# Altium integrated library Oscillators - Crystals.IntLib: 746 symbols (part 2 of 17)
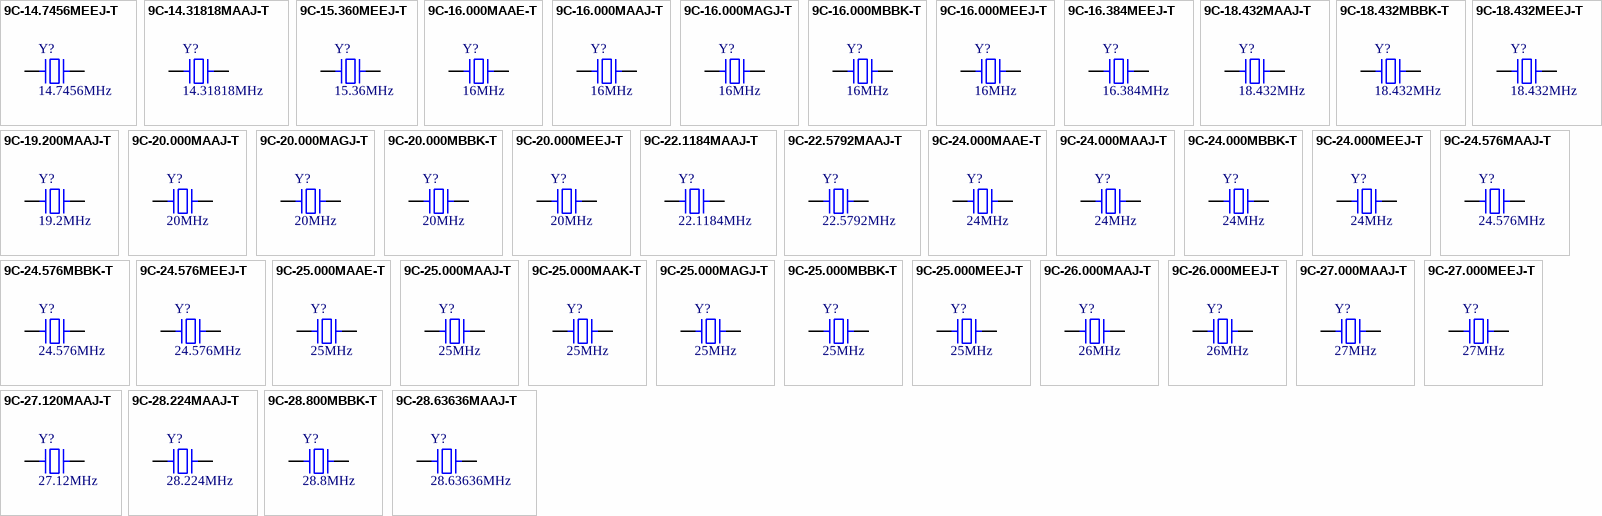
[diagram p19: symbols 9C-14.7456MEEJ-T to 9C-28.63636MAAJ-T]

## 9C-16.000MBBK-T
designator Y?, comment 16MHz
CRYSTAL 16.0000MHZ 20PF SMD; Part Number: 9C-16.000MBBK-T; Manufacturer: TXC CORPORATION; ESR (Equivalent Series Resistance): 30 Ohms; Frequency Stability: ±50ppm; Operating Mode: Fundamental; ComponentLink1Description: Datasheet; ComponentLink1URL: http://www.txccorp.com/download/products/quartz_crystals/2015TXC_9C_32.pdf; ComponentLink2Description: DigiKey Link; ComponentLink2URL: http://digikey.com/product-detail/en/txc-corporation/9C-16.000MBBK-T/887-2425-1-ND/4475430; Frequency: 16MHz; Frequency Tolerance: ±50ppm; Height - Seated (Max): 0.161" (4.10mm); LastUpdated: 9/2/2020 1:22:01 AM; Lifecycle Status: Active; Load Capacitance: 20pF; Minimum Order: 1; Mounting Type: Surface Mount; Operating Temperature: -20°C ~ 70°C; Package / Case: HC-49S; Packaging: TapeAndReel; PartId: 698; Part Status: Active; Price: 0.18; Series: 9C; Size / Dimension: 0.449" L x 0.189" W (11.40mm x 4.80mm); Supplier 1: DigiKey; Supplier Part Number 1: 887-2425-1-ND; Type: MHz Crystal; Value: 16MHz
footprint TXC 9C
pins: 1, 2

## 9C-16.000MEEJ-T
designator Y?, comment 16MHz
CRYSTAL 16.0000MHZ 18PF SMD; Part Number: 9C-16.000MEEJ-T; Manufacturer: TXC CORPORATION; ESR (Equivalent Series Resistance): 30 Ohms; Frequency Stability: ±10ppm; Operating Mode: Fundamental; ComponentLink1Description: Datasheet; ComponentLink1URL: http://www.txccrystal.com/images/pdf/9c-accuracy.pdf; ComponentLink2Description: DigiKey Link; ComponentLink2URL: http://digikey.com/product-detail/en/txc-corporation/9C-16.000MEEJ-T/887-1274-1-ND/2207856; Frequency: 16MHz; Frequency Tolerance: ±10ppm; Height - Seated (Max): 0.161" (4.10mm); LastUpdated: 9/2/2020 1:22:02 AM; Lifecycle Status: Active; Load Capacitance: 18pF; Minimum Order: 1; Mounting Type: Surface Mount; Operating Temperature: -20°C ~ 70°C; Package / Case: HC-49/US; Packaging: TapeAndReel; PartId: 659; Part Status: Active; Price: 0.29; Series: 9C; Size / Dimension: 0.449" L x 0.189" W (11.40mm x 4.80mm); Supplier 1: DigiKey; Supplier Part Number 1: 887-1274-1-ND; Type: MHz Crystal; Value: 16MHz
footprint TXC 9C
pins: 1, 2

## 9C-16.384MEEJ-T
designator Y?, comment 16.384MHz
CRYSTAL 16.3840MHZ 18PF SMD; Part Number: 9C-16.384MEEJ-T; Manufacturer: TXC CORPORATION; ESR (Equivalent Series Resistance): 30 Ohms; Frequency Stability: ±10ppm; Operating Mode: Fundamental; ComponentLink1Description: Datasheet; ComponentLink1URL: http://www.txccrystal.com/images/pdf/9c-accuracy.pdf; ComponentLink2Description: DigiKey Link; ComponentLink2URL: http://digikey.com/product-detail/en/txc-corporation/9C-16.384MEEJ-T/887-1275-1-ND/2207857; Frequency: 16.384MHz; Frequency Tolerance: ±10ppm; Height - Seated (Max): 0.161" (4.10mm); LastUpdated: 9/2/2020 1:22:01 AM; Lifecycle Status: Active; Load Capacitance: 18pF; Minimum Order: 1; Mounting Type: Surface Mount; Operating Temperature: -20°C ~ 70°C; Package / Case: HC-49/US; Packaging: TapeAndReel; PartId: 717; Part Status: Active; Price: 0.29; Series: 9C; Size / Dimension: 0.449" L x 0.189" W (11.40mm x 4.80mm); Supplier 1: DigiKey; Supplier Part Number 1: 887-1275-1-ND; Type: MHz Crystal; Value: 16.384MHz
footprint TXC 9C
pins: 1, 2

## 9C-18.432MAAJ-T
designator Y?, comment 18.432MHz
CRYSTAL 18.4320MHZ 18PF SMD; Part Number: 9C-18.432MAAJ-T; Manufacturer: TXC CORPORATION; ESR (Equivalent Series Resistance): 30 Ohms; Frequency Stability: ±30ppm; Operating Mode: Fundamental; ComponentLink1Description: Datasheet; ComponentLink1URL: http://www.txccorp.com/download/products/quartz_crystals/2015TXC_9C_32.pdf; ComponentLink2Description: DigiKey Link; ComponentLink2URL: http://digikey.com/product-detail/en/txc-corporation/9C-18.432MAAJ-T/887-1061-1-ND/2118938; Frequency: 18.432MHz; Frequency Tolerance: ±30ppm; Height - Seated (Max): 0.161" (4.10mm); LastUpdated: 9/2/2020 1:22:01 AM; Lifecycle Status: Active; Load Capacitance: 18pF; Minimum Order: 1; Mounting Type: Surface Mount; Operating Temperature: -20°C ~ 70°C; Package / Case: HC-49/US; Packaging: TapeAndReel; PartId: 727; Part Status: Active; Price: 0.22; Series: 9C; Size / Dimension: 0.449" L x 0.189" W (11.40mm x 4.80mm); Supplier 1: DigiKey; Supplier Part Number 1: 887-1061-1-ND; Type: MHz Crystal; Value: 18.432MHz
footprint TXC 9C
pins: 1, 2

## 9C-18.432MBBK-T
designator Y?, comment 18.432MHz
CRYSTAL 18.4320MHZ 20PF SMD; Part Number: 9C-18.432MBBK-T; Manufacturer: TXC CORPORATION; ESR (Equivalent Series Resistance): 30 Ohms; Frequency Stability: ±50ppm; Operating Mode: Fundamental; ComponentLink1Description: Datasheet; ComponentLink1URL: http://www.txccorp.com/download/products/quartz_crystals/2015TXC_9C_32.pdf; ComponentLink2Description: DigiKey Link; ComponentLink2URL: http://digikey.com/product-detail/en/txc-corporation/9C-18.432MBBK-T/887-1945-1-ND/3679677; Frequency: 18.432MHz; Frequency Tolerance: ±50ppm; Height - Seated (Max): 0.161" (4.10mm); LastUpdated: 9/2/2020 1:22:02 AM; Lifecycle Status: Active; Load Capacitance: 20pF; Minimum Order: 1; Mounting Type: Surface Mount; Operating Temperature: -20°C ~ 70°C; Package / Case: HC-49S; Packaging: TapeAndReel; PartId: 662; Part Status: Active; Price: 0.18; Series: 9C; Size / Dimension: 0.449" L x 0.189" W (11.40mm x 4.80mm); Supplier 1: DigiKey; Supplier Part Number 1: 887-1945-1-ND; Type: MHz Crystal; Value: 18.432MHz
footprint TXC 9C
pins: 1, 2

## 9C-18.432MEEJ-T
designator Y?, comment 18.432MHz
CRYSTAL 18.4320MHZ 18PF SMD; Part Number: 9C-18.432MEEJ-T; Manufacturer: TXC CORPORATION; ESR (Equivalent Series Resistance): 30 Ohms; Frequency Stability: ±10ppm; Operating Mode: Fundamental; ComponentLink1Description: Datasheet; ComponentLink1URL: http://www.txccrystal.com/images/pdf/9c-accuracy.pdf; ComponentLink2Description: DigiKey Link; ComponentLink2URL: http://digikey.com/product-detail/en/txc-corporation/9C-18.432MEEJ-T/887-1276-1-ND/2207858; Frequency: 18.432MHz; Frequency Tolerance: ±10ppm; Height - Seated (Max): 0.161" (4.10mm); LastUpdated: 9/2/2020 1:22:01 AM; Lifecycle Status: Active; Load Capacitance: 18pF; Minimum Order: 1; Mounting Type: Surface Mount; Operating Temperature: -20°C ~ 70°C; Package / Case: HC-49/US; Packaging: TapeAndReel; PartId: 738; Part Status: Active; Price: 0.29; Series: 9C; Size / Dimension: 0.449" L x 0.189" W (11.40mm x 4.80mm); Supplier 1: DigiKey; Supplier Part Number 1: 887-1276-1-ND; Type: MHz Crystal; Value: 18.432MHz
footprint TXC 9C
pins: 1, 2

## 9C-19.200MAAJ-T
designator Y?, comment 19.2MHz
CRYSTAL 19.2000MHZ 18PF SMD; Part Number: 9C-19.200MAAJ-T; Manufacturer: TXC CORPORATION; ESR (Equivalent Series Resistance): 30 Ohms; Frequency Stability: ±30ppm; Operating Mode: Fundamental; ComponentLink1Description: Datasheet; ComponentLink1URL: http://www.txccorp.com/download/products/quartz_crystals/2015TXC_9C_32.pdf; ComponentLink2Description: DigiKey Link; ComponentLink2URL: http://digikey.com/product-detail/en/txc-corporation/9C-19.200MAAJ-T/887-1062-1-ND/2118939; Frequency: 19.2MHz; Frequency Tolerance: ±30ppm; Height - Seated (Max): 0.161" (4.10mm); LastUpdated: 9/2/2020 1:22:01 AM; Lifecycle Status: Active; Load Capacitance: 18pF; Minimum Order: 1; Mounting Type: Surface Mount; Operating Temperature: -20°C ~ 70°C; Package / Case: HC-49/US; Packaging: TapeAndReel; PartId: 724; Part Status: Active; Price: 0.22; Series: 9C; Size / Dimension: 0.449" L x 0.189" W (11.40mm x 4.80mm); Supplier 1: DigiKey; Supplier Part Number 1: 887-1062-1-ND; Type: MHz Crystal; Value: 19.2MHz
footprint TXC 9C
pins: 1, 2

## 9C-20.000MAAJ-T
designator Y?, comment 20MHz
CRYSTAL 20.0000MHZ 18PF SMD; Part Number: 9C-20.000MAAJ-T; Manufacturer: TXC CORPORATION; ESR (Equivalent Series Resistance): 30 Ohms; Frequency Stability: ±30ppm; Operating Mode: Fundamental; ComponentLink1Description: Datasheet; ComponentLink1URL: http://www.txccorp.com/download/products/quartz_crystals/2015TXC_9C_32.pdf; ComponentLink2Description: DigiKey Link; ComponentLink2URL: http://digikey.com/product-detail/en/txc-corporation/9C-20.000MAAJ-T/887-1063-1-ND/2118940; Frequency: 20MHz; Frequency Tolerance: ±30ppm; Height - Seated (Max): 0.161" (4.10mm); LastUpdated: 9/2/2020 1:22:01 AM; Lifecycle Status: Active; Load Capacitance: 18pF; Minimum Order: 1; Mounting Type: Surface Mount; Operating Temperature: -20°C ~ 70°C; Package / Case: HC-49/US; Packaging: TapeAndReel; PartId: 728; Part Status: Active; Price: 0.22; Series: 9C; Size / Dimension: 0.449" L x 0.189" W (11.40mm x 4.80mm); Supplier 1: DigiKey; Supplier Part Number 1: 887-1063-1-ND; Type: MHz Crystal; Value: 20MHz
footprint TXC 9C
pins: 1, 2

## 9C-20.000MAGJ-T
designator Y?, comment 20MHz
CRYSTAL 20.0000MHZ 18PF SMD; Part Number: 9C-20.000MAGJ-T; Manufacturer: TXC CORPORATION; ESR (Equivalent Series Resistance): 30 Ohms; Frequency Stability: ±50ppm; Frequency Tolerance: ±30ppm; Operating Mode: Fundamental; ComponentLink1Description: Datasheet; ComponentLink1URL: http://www.txccorp.com/download/products/quartz_crystals/2015TXC_9C_32.pdf; ComponentLink2Description: DigiKey Link; ComponentLink2URL: http://digikey.com/product-detail/en/txc-corporation/9C-20.000MAGJ-T/887-2433-1-ND/4475489; Frequency: 20MHz; Height - Seated (Max): 0.161" (4.10mm); LastUpdated: 9/2/2020 1:22:02 AM; Lifecycle Status: Active; Load Capacitance: 18pF; Minimum Order: 1; Mounting Type: Surface Mount; Operating Temperature: -40°C ~ 85°C; Package / Case: HC-49S; Packaging: TapeAndReel; PartId: 678; Part Status: Active; Price: 0.19; Series: 9C; Size / Dimension: 0.449" L x 0.189" W (11.40mm x 4.80mm); Supplier 1: DigiKey; Supplier Part Number 1: 887-2433-1-ND; Type: MHz Crystal; Value: 20MHz
footprint TXC 9C
pins: 1, 2

## 9C-20.000MBBK-T
designator Y?, comment 20MHz
CRYSTAL 20.0000MHZ 20PF SMD; Part Number: 9C-20.000MBBK-T; Manufacturer: TXC CORPORATION; ESR (Equivalent Series Resistance): 30 Ohms; Frequency Stability: ±50ppm; Operating Mode: Fundamental; ComponentLink1Description: Datasheet; ComponentLink1URL: http://www.txccorp.com/download/products/quartz_crystals/2015TXC_9C_32.pdf; ComponentLink2Description: DigiKey Link; ComponentLink2URL: http://digikey.com/product-detail/en/txc-corporation/9C-20.000MBBK-T/887-2434-1-ND/4475433; Frequency: 20MHz; Frequency Tolerance: ±50ppm; Height - Seated (Max): 0.161" (4.10mm); LastUpdated: 9/2/2020 1:22:02 AM; Lifecycle Status: Active; Load Capacitance: 20pF; Minimum Order: 1; Mounting Type: Surface Mount; Operating Temperature: -20°C ~ 70°C; Package / Case: HC-49S; Packaging: TapeAndReel; PartId: 668; Part Status: Active; Price: 0.18; Series: 9C; Size / Dimension: 0.449" L x 0.189" W (11.40mm x 4.80mm); Supplier 1: DigiKey; Supplier Part Number 1: 887-2434-1-ND; Type: MHz Crystal; Value: 20MHz
footprint TXC 9C
pins: 1, 2

## 9C-20.000MEEJ-T
designator Y?, comment 20MHz
CRYSTAL 20.0000MHZ 18PF SMD; Part Number: 9C-20.000MEEJ-T; Manufacturer: TXC CORPORATION; ESR (Equivalent Series Resistance): 30 Ohms; Frequency Stability: ±10ppm; Operating Mode: Fundamental; ComponentLink1Description: Datasheet; ComponentLink1URL: http://www.txccrystal.com/images/pdf/9c-accuracy.pdf; ComponentLink2Description: DigiKey Link; ComponentLink2URL: http://digikey.com/product-detail/en/txc-corporation/9C-20.000MEEJ-T/887-1278-1-ND/2207860; Frequency: 20MHz; Frequency Tolerance: ±10ppm; Height - Seated (Max): 0.161" (4.10mm); LastUpdated: 9/2/2020 1:22:02 AM; Lifecycle Status: Active; Load Capacitance: 18pF; Minimum Order: 1; Mounting Type: Surface Mount; Operating Temperature: -20°C ~ 70°C; Package / Case: HC-49/US; Packaging: TapeAndReel; PartId: 661; Part Status: Active; Price: 0.29; Series: 9C; Size / Dimension: 0.449" L x 0.189" W (11.40mm x 4.80mm); Supplier 1: DigiKey; Supplier Part Number 1: 887-1278-1-ND; Type: MHz Crystal; Value: 20MHz
footprint TXC 9C
pins: 1, 2

## 9C-22.1184MAAJ-T
designator Y?, comment 22.1184MHz
CRYSTAL 22.1184MHZ 18PF SMD; Part Number: 9C-22.1184MAAJ-T; Manufacturer: TXC CORPORATION; ESR (Equivalent Series Resistance): 30 Ohms; Frequency Stability: ±30ppm; Operating Mode: Fundamental; ComponentLink1Description: Datasheet; ComponentLink1URL: http://www.txccorp.com/download/products/quartz_crystals/2015TXC_9C_32.pdf; ComponentLink2Description: DigiKey Link; ComponentLink2URL: http://digikey.com/product-detail/en/txc-corporation/9C-22.1184MAAJ-T/887-1065-1-ND/2118942; Frequency: 22.1184MHz; Frequency Tolerance: ±30ppm; Height - Seated (Max): 0.161" (4.10mm); LastUpdated: 9/2/2020 1:22:01 AM; Lifecycle Status: Active; Load Capacitance: 18pF; Minimum Order: 1; Mounting Type: Surface Mount; Operating Temperature: -20°C ~ 70°C; Package / Case: HC-49/US; Packaging: TapeAndReel; PartId: 693; Part Status: Active; Price: 0.22; Series: 9C; Size / Dimension: 0.449" L x 0.189" W (11.40mm x 4.80mm); Supplier 1: DigiKey; Supplier Part Number 1: 887-1065-1-ND; Type: MHz Crystal; Value: 22.1184MHz
footprint TXC 9C
pins: 1, 2

## 9C-22.5792MAAJ-T
designator Y?, comment 22.5792MHz
CRYSTAL 22.5792MHZ 18PF SMD; Part Number: 9C-22.5792MAAJ-T; Manufacturer: TXC CORPORATION; ESR (Equivalent Series Resistance): 30 Ohms; Frequency Stability: ±30ppm; Operating Mode: Fundamental; ComponentLink1Description: Datasheet; ComponentLink1URL: http://www.txccorp.com/download/products/quartz_crystals/2015TXC_9C_32.pdf; ComponentLink2Description: DigiKey Link; ComponentLink2URL: http://digikey.com/product-detail/en/txc-corporation/9C-22.5792MAAJ-T/887-2438-1-ND/4475492; Frequency: 22.5792MHz; Frequency Tolerance: ±30ppm; Height - Seated (Max): 0.161" (4.10mm); LastUpdated: 9/2/2020 1:22:02 AM; Lifecycle Status: Active; Load Capacitance: 18pF; Minimum Order: 1; Mounting Type: Surface Mount; Operating Temperature: -20°C ~ 70°C; Package / Case: HC-49S; Packaging: TapeAndReel; PartId: 673; Part Status: Active; Price: 0.19; Series: 9C; Size / Dimension: 0.449" L x 0.189" W (11.40mm x 4.80mm); Supplier 1: DigiKey; Supplier Part Number 1: 887-2438-1-ND; Type: MHz Crystal; Value: 22.5792MHz
footprint TXC 9C
pins: 1, 2

## 9C-24.000MAAE-T
designator Y?, comment 24MHz
CRYSTAL 24.0000MHZ 12PF SMD; Part Number: 9C-24.000MAAE-T; Manufacturer: TXC CORPORATION; ESR (Equivalent Series Resistance): 30 Ohms; Frequency Stability: ±30ppm; Operating Mode: Fundamental; ComponentLink1Description: Datasheet; ComponentLink1URL: http://www.txccorp.com/download/products/quartz_crystals/2015TXC_9C_32.pdf; ComponentLink2Description: DigiKey Link; ComponentLink2URL: http://digikey.com/product-detail/en/txc-corporation/9C-24.000MAAE-T/887-2439-1-ND/4475435; Frequency: 24MHz; Frequency Tolerance: ±30ppm; Height - Seated (Max): 0.161" (4.10mm); LastUpdated: 9/2/2020 1:22:01 AM; Lifecycle Status: Active; Load Capacitance: 12pF; Minimum Order: 1; Mounting Type: Surface Mount; Operating Temperature: -20°C ~ 70°C; Package / Case: HC-49S; Packaging: TapeAndReel; PartId: 690; Part Status: Active; Price: 0.19; Series: 9C; Size / Dimension: 0.449" L x 0.189" W (11.40mm x 4.80mm); Supplier 1: DigiKey; Supplier Part Number 1: 887-2439-1-ND; Type: MHz Crystal; Value: 24MHz
footprint TXC 9C
pins: 1, 2

## 9C-24.000MAAJ-T
designator Y?, comment 24MHz
CRYSTAL 24.0000MHZ 18PF SMD; Part Number: 9C-24.000MAAJ-T; Manufacturer: TXC CORPORATION; ESR (Equivalent Series Resistance): 30 Ohms; Frequency Stability: ±30ppm; Operating Mode: Fundamental; ComponentLink1Description: Datasheet; ComponentLink1URL: http://www.txccorp.com/download/products/quartz_crystals/2015TXC_9C_32.pdf; ComponentLink2Description: DigiKey Link; ComponentLink2URL: http://digikey.com/product-detail/en/txc-corporation/9C-24.000MAAJ-T/887-1066-1-ND/2118943; Frequency: 24MHz; Frequency Tolerance: ±30ppm; Height - Seated (Max): 0.161" (4.10mm); LastUpdated: 9/2/2020 1:22:01 AM; Lifecycle Status: Active; Load Capacitance: 18pF; Minimum Order: 1; Mounting Type: Surface Mount; Operating Temperature: -20°C ~ 70°C; Package / Case: HC-49/US; Packaging: TapeAndReel; PartId: 710; Part Status: Active; Price: 0.22; Series: 9C; Size / Dimension: 0.449" L x 0.189" W (11.40mm x 4.80mm); Supplier 1: DigiKey; Supplier Part Number 1: 887-1066-1-ND; Type: MHz Crystal; Value: 24MHz
footprint TXC 9C
pins: 1, 2

## 9C-24.000MBBK-T
designator Y?, comment 24MHz
CRYSTAL 24.0000MHZ 20PF SMD; Part Number: 9C-24.000MBBK-T; Manufacturer: TXC CORPORATION; ESR (Equivalent Series Resistance): 30 Ohms; Frequency Stability: ±50ppm; Operating Mode: Fundamental; ComponentLink1Description: Datasheet; ComponentLink1URL: http://www.txccorp.com/download/products/quartz_crystals/2015TXC_9C_32.pdf; ComponentLink2Description: DigiKey Link; ComponentLink2URL: http://digikey.com/product-detail/en/txc-corporation/9C-24.000MBBK-T/887-2441-1-ND/4475436; Frequency: 24MHz; Frequency Tolerance: ±50ppm; Height - Seated (Max): 0.161" (4.10mm); LastUpdated: 9/2/2020 1:22:02 AM; Lifecycle Status: Active; Load Capacitance: 20pF; Minimum Order: 1; Mounting Type: Surface Mount; Operating Temperature: -20°C ~ 70°C; Package / Case: HC-49S; Packaging: TapeAndReel; PartId: 664; Part Status: Active; Price: 0.18; Series: 9C; Size / Dimension: 0.449" L x 0.189" W (11.40mm x 4.80mm); Supplier 1: DigiKey; Supplier Part Number 1: 887-2441-1-ND; Type: MHz Crystal; Value: 24MHz
footprint TXC 9C
pins: 1, 2

## 9C-24.000MEEJ-T
designator Y?, comment 24MHz
CRYSTAL 24.0000MHZ 18PF SMD; Part Number: 9C-24.000MEEJ-T; Manufacturer: TXC CORPORATION; ESR (Equivalent Series Resistance): 30 Ohms; Frequency Stability: ±10ppm; Operating Mode: Fundamental; ComponentLink1Description: Datasheet; ComponentLink1URL: http://www.txccrystal.com/images/pdf/9c-accuracy.pdf; ComponentLink2Description: DigiKey Link; ComponentLink2URL: http://digikey.com/product-detail/en/txc-corporation/9C-24.000MEEJ-T/887-1281-1-ND/2207863; Frequency: 24MHz; Frequency Tolerance: ±10ppm; Height - Seated (Max): 0.161" (4.10mm); LastUpdated: 9/2/2020 1:22:01 AM; Lifecycle Status: Active; Load Capacitance: 18pF; Minimum Order: 1; Mounting Type: Surface Mount; Operating Temperature: -20°C ~ 70°C; Package / Case: HC-49/US; Packaging: TapeAndReel; PartId: 715; Part Status: Active; Price: 0.29; Series: 9C; Size / Dimension: 0.449" L x 0.189" W (11.40mm x 4.80mm); Supplier 1: DigiKey; Supplier Part Number 1: 887-1281-1-ND; Type: MHz Crystal; Value: 24MHz
footprint TXC 9C
pins: 1, 2

## 9C-24.576MAAJ-T
designator Y?, comment 24.576MHz
CRYSTAL 24.5760MHZ 18PF SMD; Part Number: 9C-24.576MAAJ-T; Manufacturer: TXC CORPORATION; ESR (Equivalent Series Resistance): 30 Ohms; Frequency Stability: ±30ppm; Operating Mode: Fundamental; ComponentLink1Description: Datasheet; ComponentLink1URL: http://www.txccorp.com/download/products/quartz_crystals/2015TXC_9C_32.pdf; ComponentLink2Description: DigiKey Link; ComponentLink2URL: http://digikey.com/product-detail/en/txc-corporation/9C-24.576MAAJ-T/887-1067-1-ND/2118944; Frequency: 24.576MHz; Frequency Tolerance: ±30ppm; Height - Seated (Max): 0.161" (4.10mm); LastUpdated: 9/2/2020 1:22:01 AM; Lifecycle Status: Active; Load Capacitance: 18pF; Minimum Order: 1; Mounting Type: Surface Mount; Operating Temperature: -20°C ~ 70°C; Package / Case: HC-49/US; Packaging: TapeAndReel; PartId: 734; Part Status: Active; Price: 0.22; Series: 9C; Size / Dimension: 0.449" L x 0.189" W (11.40mm x 4.80mm); Supplier 1: DigiKey; Supplier Part Number 1: 887-1067-1-ND; Type: MHz Crystal; Value: 24.576MHz
footprint TXC 9C
pins: 1, 2

## 9C-24.576MBBK-T
designator Y?, comment 24.576MHz
CRYSTAL 24.5760MHZ 20PF SMD; Part Number: 9C-24.576MBBK-T; Manufacturer: TXC CORPORATION; ESR (Equivalent Series Resistance): 30 Ohms; Frequency Stability: ±50ppm; Operating Mode: Fundamental; ComponentLink1Description: Datasheet; ComponentLink1URL: http://www.txccorp.com/download/products/quartz_crystals/2015TXC_9C_32.pdf; ComponentLink2Description: DigiKey Link; ComponentLink2URL: http://digikey.com/product-detail/en/txc-corporation/9C-24.576MBBK-T/887-1825-1-ND/3586031; Frequency: 24.576MHz; Frequency Tolerance: ±50ppm; Height - Seated (Max): 0.161" (4.10mm); LastUpdated: 9/2/2020 1:22:01 AM; Lifecycle Status: Active; Load Capacitance: 20pF; Minimum Order: 1; Mounting Type: Surface Mount; Operating Temperature: -20°C ~ 70°C; Package / Case: HC-49S; Packaging: TapeAndReel; PartId: 686; Part Status: Active; Price: 0.18; Series: 9C; Size / Dimension: 0.449" L x 0.189" W (11.40mm x 4.80mm); Supplier 1: DigiKey; Supplier Part Number 1: 887-1825-1-ND; Type: MHz Crystal; Value: 24.576MHz
footprint TXC 9C
pins: 1, 2

## 9C-24.576MEEJ-T
designator Y?, comment 24.576MHz
CRYSTAL 24.5760MHZ 18PF SMD; Part Number: 9C-24.576MEEJ-T; Manufacturer: TXC CORPORATION; ESR (Equivalent Series Resistance): 30 Ohms; Frequency Stability: ±10ppm; Operating Mode: Fundamental; ComponentLink1Description: Datasheet; ComponentLink1URL: http://www.txccrystal.com/images/pdf/9c-accuracy.pdf; ComponentLink2Description: DigiKey Link; ComponentLink2URL: http://digikey.com/product-detail/en/txc-corporation/9C-24.576MEEJ-T/887-1282-1-ND/2207864; Frequency: 24.576MHz; Frequency Tolerance: ±10ppm; Height - Seated (Max): 0.161" (4.10mm); LastUpdated: 9/2/2020 1:22:01 AM; Lifecycle Status: Active; Load Capacitance: 18pF; Minimum Order: 1; Mounting Type: Surface Mount; Operating Temperature: -20°C ~ 70°C; Package / Case: HC-49/US; Packaging: TapeAndReel; PartId: 696; Part Status: Active; Price: 0.29; Series: 9C; Size / Dimension: 0.449" L x 0.189" W (11.40mm x 4.80mm); Supplier 1: DigiKey; Supplier Part Number 1: 887-1282-1-ND; Type: MHz Crystal; Value: 24.576MHz
footprint TXC 9C
pins: 1, 2

## 9C-25.000MAAE-T
designator Y?, comment 25MHz
CRYSTAL 25.0000MHZ 12PF SMD; Part Number: 9C-25.000MAAE-T; Manufacturer: TXC CORPORATION; ESR (Equivalent Series Resistance): 30 Ohms; Frequency Stability: ±30ppm; Operating Mode: Fundamental; ComponentLink1Description: Datasheet; ComponentLink1URL: http://www.txccorp.com/download/products/quartz_crystals/2015TXC_9C_32.pdf; ComponentLink2Description: DigiKey Link; ComponentLink2URL: http://digikey.com/product-detail/en/txc-corporation/9C-25.000MAAE-T/887-2442-1-ND/4475437; Frequency: 25MHz; Frequency Tolerance: ±30ppm; Height - Seated (Max): 0.161" (4.10mm); LastUpdated: 9/2/2020 1:22:02 AM; Lifecycle Status: Active; Load Capacitance: 12pF; Minimum Order: 1; Mounting Type: Surface Mount; Operating Temperature: -20°C ~ 70°C; Package / Case: HC-49S; Packaging: TapeAndReel; PartId: 674; Part Status: Active; Price: 0.19; Series: 9C; Size / Dimension: 0.449" L x 0.189" W (11.40mm x 4.80mm); Supplier 1: DigiKey; Supplier Part Number 1: 887-2442-1-ND; Type: MHz Crystal; Value: 25MHz
footprint TXC 9C
pins: 1, 2

## 9C-25.000MAAJ-T
designator Y?, comment 25MHz
CRYSTAL 25.0000MHZ 18PF SMD; Part Number: 9C-25.000MAAJ-T; Manufacturer: TXC CORPORATION; ESR (Equivalent Series Resistance): 30 Ohms; Frequency Stability: ±30ppm; Operating Mode: Fundamental; ComponentLink1Description: Datasheet; ComponentLink1URL: http://www.txccorp.com/download/products/quartz_crystals/2015TXC_9C_32.pdf; ComponentLink2Description: DigiKey Link; ComponentLink2URL: http://digikey.com/product-detail/en/txc-corporation/9C-25.000MAAJ-T/887-1068-1-ND/2118945; Frequency: 25MHz; Frequency Tolerance: ±30ppm; Height - Seated (Max): 0.161" (4.10mm); LastUpdated: 9/2/2020 1:22:01 AM; Lifecycle Status: Active; Load Capacitance: 18pF; Minimum Order: 1; Mounting Type: Surface Mount; Operating Temperature: -20°C ~ 70°C; Package / Case: HC-49/US; Packaging: TapeAndReel; PartId: 705; Part Status: Active; Price: 0.22; Series: 9C; Size / Dimension: 0.449" L x 0.189" W (11.40mm x 4.80mm); Supplier 1: DigiKey; Supplier Part Number 1: 887-1068-1-ND; Type: MHz Crystal; Value: 25MHz
footprint TXC 9C
pins: 1, 2

## 9C-25.000MAAK-T
designator Y?, comment 25MHz
CRYSTAL 25.0000MHZ 20PF SMD; Part Number: 9C-25.000MAAK-T; Manufacturer: TXC CORPORATION; ESR (Equivalent Series Resistance): 30 Ohms; Frequency Stability: ±30ppm; Operating Mode: Fundamental; ComponentLink1Description: Datasheet; ComponentLink1URL: http://www.txccorp.com/download/products/quartz_crystals/2015TXC_9C_32.pdf; ComponentLink2Description: DigiKey Link; ComponentLink2URL: http://digikey.com/product-detail/en/txc-corporation/9C-25.000MAAK-T/887-1517-1-ND/2690379; Frequency: 25MHz; Frequency Tolerance: ±30ppm; Height - Seated (Max): 0.161" (4.10mm); LastUpdated: 9/2/2020 1:22:01 AM; Lifecycle Status: Active; Load Capacitance: 20pF; Minimum Order: 1; Mounting Type: Surface Mount; Operating Temperature: -20°C ~ 70°C; Package / Case: HC-49/US; Packaging: TapeAndReel; PartId: 702; Part Status: Active; Price: 0.19; Series: 9C; Size / Dimension: 0.449" L x 0.189" W (11.40mm x 4.80mm); Supplier 1: DigiKey; Supplier Part Number 1: 887-1517-1-ND; Type: MHz Crystal; Value: 25MHz
footprint TXC 9C
pins: 1, 2

## 9C-25.000MAGJ-T
designator Y?, comment 25MHz
CRYSTAL 25.0000MHZ 18PF SMD; Part Number: 9C-25.000MAGJ-T; Manufacturer: TXC CORPORATION; ESR (Equivalent Series Resistance): 30 Ohms; Frequency Stability: ±50ppm; Frequency Tolerance: ±30ppm; Operating Mode: Fundamental; ComponentLink1Description: Datasheet; ComponentLink1URL: http://www.txccorp.com/download/products/quartz_crystals/2015TXC_9C_32.pdf; ComponentLink2Description: DigiKey Link; ComponentLink2URL: http://digikey.com/product-detail/en/txc-corporation/9C-25.000MAGJ-T/887-2443-1-ND/4475494; Frequency: 25MHz; Height - Seated (Max): 0.161" (4.10mm); LastUpdated: 9/2/2020 1:22:01 AM; Lifecycle Status: Active; Load Capacitance: 18pF; Minimum Order: 1; Mounting Type: Surface Mount; Operating Temperature: -40°C ~ 85°C; Package / Case: HC-49S; Packaging: TapeAndReel; PartId: 687; Part Status: Active; Price: 0.19; Series: 9C; Size / Dimension: 0.449" L x 0.189" W (11.40mm x 4.80mm); Supplier 1: DigiKey; Supplier Part Number 1: 887-2443-1-ND; Type: MHz Crystal; Value: 25MHz
footprint TXC 9C
pins: 1, 2

## 9C-25.000MBBK-T
designator Y?, comment 25MHz
CRYSTAL 25.0000MHZ 20PF SMD; Part Number: 9C-25.000MBBK-T; Manufacturer: TXC CORPORATION; ESR (Equivalent Series Resistance): 30 Ohms; Frequency Stability: ±50ppm; Operating Mode: Fundamental; ComponentLink1Description: Datasheet; ComponentLink1URL: http://www.txccorp.com/download/products/quartz_crystals/2015TXC_9C_32.pdf; ComponentLink2Description: DigiKey Link; ComponentLink2URL: http://digikey.com/product-detail/en/txc-corporation/9C-25.000MBBK-T/887-2444-1-ND/4475438; Frequency: 25MHz; Frequency Tolerance: ±50ppm; Height - Seated (Max): 0.161" (4.10mm); LastUpdated: 9/2/2020 1:22:01 AM; Lifecycle Status: Active; Load Capacitance: 20pF; Minimum Order: 1; Mounting Type: Surface Mount; Operating Temperature: -20°C ~ 70°C; Package / Case: HC-49S; Packaging: TapeAndReel; PartId: 699; Part Status: Active; Price: 0.18; Series: 9C; Size / Dimension: 0.449" L x 0.189" W (11.40mm x 4.80mm); Supplier 1: DigiKey; Supplier Part Number 1: 887-2444-1-ND; Type: MHz Crystal; Value: 25MHz
footprint TXC 9C
pins: 1, 2

## 9C-25.000MEEJ-T
designator Y?, comment 25MHz
CRYSTAL 25.0000MHZ 18PF SMD; Part Number: 9C-25.000MEEJ-T; Manufacturer: TXC CORPORATION; ESR (Equivalent Series Resistance): 30 Ohms; Frequency Stability: ±10ppm; Operating Mode: Fundamental; ComponentLink1Description: Datasheet; ComponentLink1URL: http://www.txccrystal.com/images/pdf/9c-accuracy.pdf; ComponentLink2Description: DigiKey Link; ComponentLink2URL: http://digikey.com/product-detail/en/txc-corporation/9C-25.000MEEJ-T/887-1283-1-ND/2207865; Frequency: 25MHz; Frequency Tolerance: ±10ppm; Height - Seated (Max): 0.161" (4.10mm); LastUpdated: 9/2/2020 1:22:01 AM; Lifecycle Status: Active; Load Capacitance: 18pF; Minimum Order: 1; Mounting Type: Surface Mount; Operating Temperature: -20°C ~ 70°C; Package / Case: HC-49/US; Packaging: TapeAndReel; PartId: 716; Part Status: Active; Price: 0.29; Series: 9C; Size / Dimension: 0.449" L x 0.189" W (11.40mm x 4.80mm); Supplier 1: DigiKey; Supplier Part Number 1: 887-1283-1-ND; Type: MHz Crystal; Value: 25MHz
footprint TXC 9C
pins: 1, 2

## 9C-26.000MAAJ-T
designator Y?, comment 26MHz
CRYSTAL 26.0000MHZ 18PF SMD; Part Number: 9C-26.000MAAJ-T; Manufacturer: TXC CORPORATION; ESR (Equivalent Series Resistance): 30 Ohms; Frequency Stability: ±30ppm; Operating Mode: Fundamental; ComponentLink1Description: Datasheet; ComponentLink1URL: http://www.txccorp.com/download/products/quartz_crystals/2015TXC_9C_32.pdf; ComponentLink2Description: DigiKey Link; ComponentLink2URL: http://digikey.com/product-detail/en/txc-corporation/9C-26.000MAAJ-T/887-1069-1-ND/2118946; Frequency: 26MHz; Frequency Tolerance: ±30ppm; Height - Seated (Max): 0.161" (4.10mm); LastUpdated: 9/2/2020 1:22:01 AM; Lifecycle Status: Active; Load Capacitance: 18pF; Minimum Order: 1; Mounting Type: Surface Mount; Operating Temperature: -20°C ~ 70°C; Package / Case: HC-49/US; Packaging: TapeAndReel; PartId: 721; Part Status: Active; Price: 0.22; Series: 9C; Size / Dimension: 0.449" L x 0.189" W (11.40mm x 4.80mm); Supplier 1: DigiKey; Supplier Part Number 1: 887-1069-1-ND; Type: MHz Crystal; Value: 26MHz
footprint TXC 9C
pins: 1, 2

## 9C-26.000MEEJ-T
designator Y?, comment 26MHz
CRYSTAL 26.0000MHZ 18PF SMD; Part Number: 9C-26.000MEEJ-T; Manufacturer: TXC CORPORATION; ESR (Equivalent Series Resistance): 30 Ohms; Frequency Stability: ±10ppm; Operating Mode: Fundamental; ComponentLink1Description: Datasheet; ComponentLink1URL: http://www.txccrystal.com/images/pdf/9c-accuracy.pdf; ComponentLink2Description: DigiKey Link; ComponentLink2URL: http://digikey.com/product-detail/en/txc-corporation/9C-26.000MEEJ-T/887-1284-1-ND/2207866; Frequency: 26MHz; Frequency Tolerance: ±10ppm; Height - Seated (Max): 0.161" (4.10mm); LastUpdated: 9/2/2020 1:22:01 AM; Lifecycle Status: Active; Load Capacitance: 18pF; Minimum Order: 1; Mounting Type: Surface Mount; Operating Temperature: -20°C ~ 70°C; Package / Case: HC-49/US; Packaging: TapeAndReel; PartId: 714; Part Status: Active; Price: 0.29; Series: 9C; Size / Dimension: 0.449" L x 0.189" W (11.40mm x 4.80mm); Supplier 1: DigiKey; Supplier Part Number 1: 887-1284-1-ND; Type: MHz Crystal; Value: 26MHz
footprint TXC 9C
pins: 1, 2

## 9C-27.000MAAJ-T
designator Y?, comment 27MHz
CRYSTAL 27.0000MHZ 18PF SMD; Part Number: 9C-27.000MAAJ-T; Manufacturer: TXC CORPORATION; ESR (Equivalent Series Resistance): 30 Ohms; Frequency Stability: ±30ppm; Operating Mode: Fundamental; ComponentLink1Description: Datasheet; ComponentLink1URL: http://www.txccorp.com/download/products/quartz_crystals/2015TXC_9C_32.pdf; ComponentLink2Description: DigiKey Link; ComponentLink2URL: http://digikey.com/product-detail/en/txc-corporation/9C-27.000MAAJ-T/887-1070-1-ND/2118947; Frequency: 27MHz; Frequency Tolerance: ±30ppm; Height - Seated (Max): 0.161" (4.10mm); LastUpdated: 9/2/2020 1:22:01 AM; Lifecycle Status: Active; Load Capacitance: 18pF; Minimum Order: 1; Mounting Type: Surface Mount; Operating Temperature: -20°C ~ 70°C; Package / Case: HC-49/US; Packaging: TapeAndReel; PartId: 729; Part Status: Active; Price: 0.22; Series: 9C; Size / Dimension: 0.449" L x 0.189" W (11.40mm x 4.80mm); Supplier 1: DigiKey; Supplier Part Number 1: 887-1070-1-ND; Type: MHz Crystal; Value: 27MHz
footprint TXC 9C
pins: 1, 2

## 9C-27.000MEEJ-T
designator Y?, comment 27MHz
CRYSTAL 27.0000MHZ 18PF SMD; Part Number: 9C-27.000MEEJ-T; Manufacturer: TXC CORPORATION; ESR (Equivalent Series Resistance): 30 Ohms; Frequency Stability: ±10ppm; Operating Mode: Fundamental; ComponentLink1Description: Datasheet; ComponentLink1URL: http://www.txccrystal.com/images/pdf/9c-accuracy.pdf; ComponentLink2Description: DigiKey Link; ComponentLink2URL: http://digikey.com/product-detail/en/txc-corporation/9C-27.000MEEJ-T/887-1285-1-ND/2207867; Frequency: 27MHz; Frequency Tolerance: ±10ppm; Height - Seated (Max): 0.161" (4.10mm); LastUpdated: 9/2/2020 1:22:01 AM; Lifecycle Status: Active; Load Capacitance: 18pF; Minimum Order: 1; Mounting Type: Surface Mount; Operating Temperature: -20°C ~ 70°C; Package / Case: HC-49/US; Packaging: TapeAndReel; PartId: 736; Part Status: Active; Price: 0.29; Series: 9C; Size / Dimension: 0.449" L x 0.189" W (11.40mm x 4.80mm); Supplier 1: DigiKey; Supplier Part Number 1: 887-1285-1-ND; Type: MHz Crystal; Value: 27MHz
footprint TXC 9C
pins: 1, 2

## 9C-27.120MAAJ-T
designator Y?, comment 27.12MHz
CRYSTAL 27.1200MHZ 18PF SMD; Part Number: 9C-27.120MAAJ-T; Manufacturer: TXC CORPORATION; ESR (Equivalent Series Resistance): 30 Ohms; Frequency Stability: ±30ppm; Operating Mode: Fundamental; ComponentLink1Description: Datasheet; ComponentLink1URL: http://www.txccorp.com/download/products/quartz_crystals/2015TXC_9C_32.pdf; ComponentLink2Description: DigiKey Link; ComponentLink2URL: http://digikey.com/product-detail/en/txc-corporation/9C-27.120MAAJ-T/887-2446-1-ND/4475495; Frequency: 27.12MHz; Frequency Tolerance: ±30ppm; Height - Seated (Max): 0.161" (4.10mm); LastUpdated: 9/2/2020 1:22:01 AM; Lifecycle Status: Active; Load Capacitance: 18pF; Minimum Order: 1; Mounting Type: Surface Mount; Operating Temperature: -20°C ~ 70°C; Package / Case: HC-49S; Packaging: TapeAndReel; PartId: 700; Part Status: Active; Price: 0.19; Series: 9C; Size / Dimension: 0.449" L x 0.189" W (11.40mm x 4.80mm); Supplier 1: DigiKey; Supplier Part Number 1: 887-2446-1-ND; Type: MHz Crystal; Value: 27.12MHz
footprint TXC 9C
pins: 1, 2

## 9C-28.224MAAJ-T
designator Y?, comment 28.224MHz
CRYSTAL 28.2240MHZ 18PF SMD; Part Number: 9C-28.224MAAJ-T; Manufacturer: TXC CORPORATION; ESR (Equivalent Series Resistance): 30 Ohms; Frequency Stability: ±30ppm; Operating Mode: Fundamental; ComponentLink1Description: Datasheet; ComponentLink1URL: http://www.txccorp.com/download/products/quartz_crystals/2015TXC_9C_32.pdf; ComponentLink2Description: DigiKey Link; ComponentLink2URL: http://digikey.com/product-detail/en/txc-corporation/9C-28.224MAAJ-T/887-2447-1-ND/4475496; Frequency: 28.224MHz; Frequency Tolerance: ±30ppm; Height - Seated (Max): 0.161" (4.10mm); LastUpdated: 9/2/2020 1:22:01 AM; Lifecycle Status: Active; Load Capacitance: 18pF; Minimum Order: 1; Mounting Type: Surface Mount; Operating Temperature: -20°C ~ 70°C; Package / Case: HC-49S; Packaging: TapeAndReel; PartId: 688; Part Status: Active; Price: 0.19; Series: 9C; Size / Dimension: 0.449" L x 0.189" W (11.40mm x 4.80mm); Supplier 1: DigiKey; Supplier Part Number 1: 887-2447-1-ND; Type: MHz Crystal; Value: 28.224MHz
footprint TXC 9C
pins: 1, 2

## 9C-28.800MBBK-T
designator Y?, comment 28.8MHz
CRYSTAL 28.8000MHZ 20PF SMD; Part Number: 9C-28.800MBBK-T; Manufacturer: TXC CORPORATION; ESR (Equivalent Series Resistance): 30 Ohms; Frequency Stability: ±50ppm; Operating Mode: Fundamental; ComponentLink1Description: Datasheet; ComponentLink1URL: http://www.txccorp.com/download/products/quartz_crystals/2015TXC_9C_32.pdf; ComponentLink2Description: DigiKey Link; ComponentLink2URL: http://digikey.com/product-detail/en/txc-corporation/9C-28.800MBBK-T/887-2449-1-ND/4475498; Frequency: 28.8MHz; Frequency Tolerance: ±50ppm; Height - Seated (Max): 0.161" (4.10mm); LastUpdated: 9/2/2020 1:22:02 AM; Lifecycle Status: Active; Load Capacitance: 20pF; Minimum Order: 1; Mounting Type: Surface Mount; Operating Temperature: -20°C ~ 70°C; Package / Case: HC-49S; Packaging: TapeAndReel; PartId: 683; Part Status: Active; Price: 0.18; Series: 9C; Size / Dimension: 0.449" L x 0.189" W (11.40mm x 4.80mm); Supplier 1: DigiKey; Supplier Part Number 1: 887-2449-1-ND; Type: MHz Crystal; Value: 28.8MHz
footprint TXC 9C
pins: 1, 2

## 9C-28.63636MAAJ-T
designator Y?, comment 28.63636MHz
CRYSTAL 28.63636MHZ 18PF SMD; Part Number: 9C-28.63636MAAJ-T; Manufacturer: TXC CORPORATION; ESR (Equivalent Series Resistance): 30 Ohms; Frequency Stability: ±30ppm; Operating Mode: Fundamental; ComponentLink1Description: Datasheet; ComponentLink1URL: http://www.txccorp.com/download/products/quartz_crystals/2015TXC_9C_32.pdf; ComponentLink2Description: DigiKey Link; ComponentLink2URL: http://digikey.com/product-detail/en/txc-corporation/9C-28.63636MAAJ-T/887-1071-1-ND/2118948; Frequency: 28.63636MHz; Frequency Tolerance: ±30ppm; Height - Seated (Max): 0.161" (4.10mm); LastUpdated: 9/2/2020 1:22:01 AM; Lifecycle Status: Active; Load Capacitance: 18pF; Minimum Order: 1; Mounting Type: Surface Mount; Operating Temperature: -20°C ~ 70°C; Package / Case: HC-49/US; Packaging: TapeAndReel; PartId: 732; Part Status: Active; Price: 0.22; Series: 9C; Size / Dimension: 0.449" L x 0.189" W (11.40mm x 4.80mm); Supplier 1: DigiKey; Supplier Part Number 1: 887-1071-1-ND; Type: MHz Crystal; Value: 28.63636MHz
footprint TXC 9C
pins: 1, 2

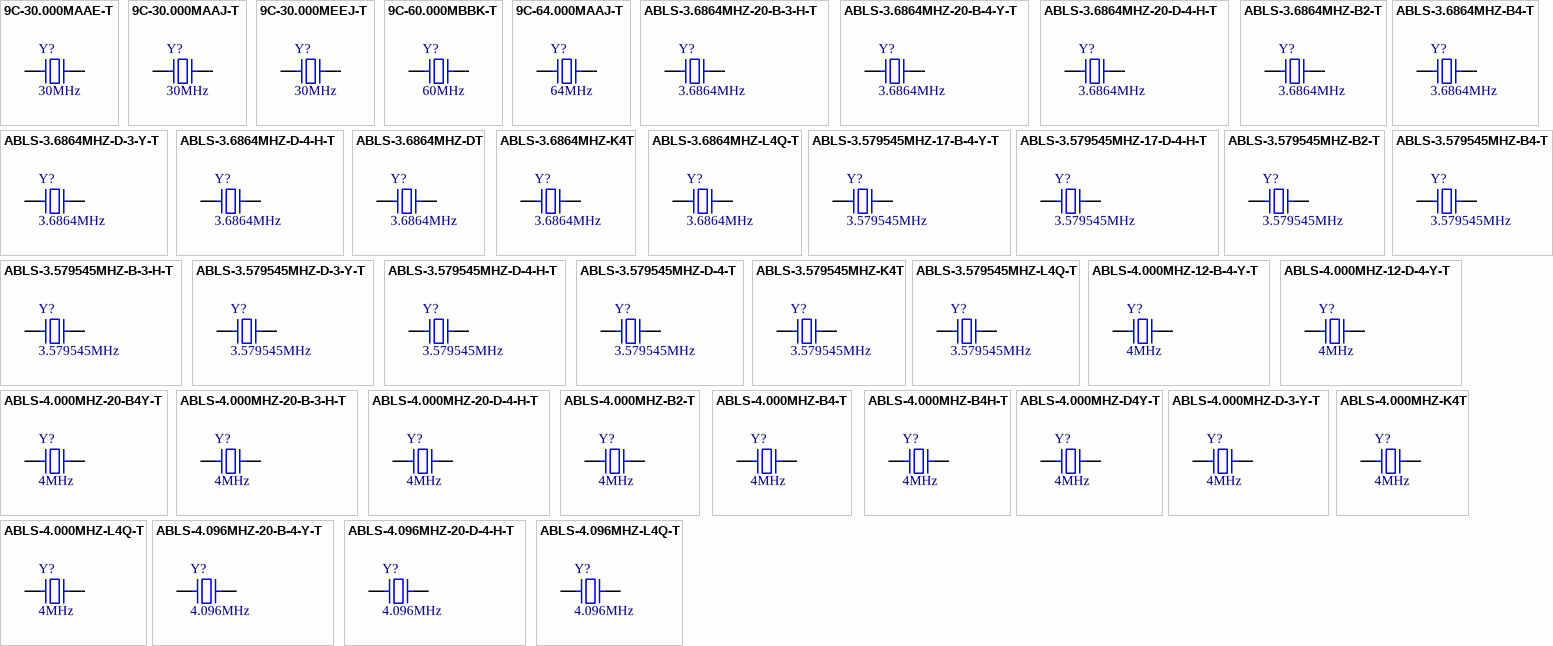
[diagram p2: symbols 9C-30.000MAAE-T to ABLS-4.096MHZ-L4Q-T]

## 9C-30.000MAAE-T
designator Y?, comment 30MHz
CRYSTAL 30.0000MHZ 12PF SMD; Part Number: 9C-30.000MAAE-T; Manufacturer: TXC CORPORATION; ESR (Equivalent Series Resistance): 30 Ohms; Frequency Stability: ±30ppm; Operating Mode: Fundamental; ComponentLink1Description: Datasheet; ComponentLink1URL: http://www.txccorp.com/download/products/quartz_crystals/2015TXC_9C_32.pdf; ComponentLink2Description: DigiKey Link; ComponentLink2URL: http://digikey.com/product-detail/en/txc-corporation/9C-30.000MAAE-T/887-2452-1-ND/4475442; Frequency: 30MHz; Frequency Tolerance: ±30ppm; Height - Seated (Max): 0.161" (4.10mm); LastUpdated: 9/2/2020 1:22:02 AM; Lifecycle Status: Active; Load Capacitance: 12pF; Minimum Order: 1; Mounting Type: Surface Mount; Operating Temperature: -20°C ~ 70°C; Package / Case: HC-49S; Packaging: TapeAndReel; PartId: 676; Part Status: Active; Price: 0.19; Series: 9C; Size / Dimension: 0.449" L x 0.189" W (11.40mm x 4.80mm); Supplier 1: DigiKey; Supplier Part Number 1: 887-2452-1-ND; Type: MHz Crystal; Value: 30MHz
footprint TXC 9C
pins: 1, 2

## 9C-30.000MAAJ-T
designator Y?, comment 30MHz
CRYSTAL 30.0000MHZ 18PF SMD; Part Number: 9C-30.000MAAJ-T; Manufacturer: TXC CORPORATION; ESR (Equivalent Series Resistance): 30 Ohms; Frequency Stability: ±30ppm; Operating Mode: Fundamental; ComponentLink1Description: Datasheet; ComponentLink1URL: http://www.txccorp.com/download/products/quartz_crystals/2015TXC_9C_32.pdf; ComponentLink2Description: DigiKey Link; ComponentLink2URL: http://digikey.com/product-detail/en/txc-corporation/9C-30.000MAAJ-T/887-1072-1-ND/2118949; Frequency: 30MHz; Frequency Tolerance: ±30ppm; Height - Seated (Max): 0.161" (4.10mm); LastUpdated: 9/2/2020 1:22:01 AM; Lifecycle Status: Active; Load Capacitance: 18pF; Minimum Order: 1; Mounting Type: Surface Mount; Operating Temperature: -20°C ~ 70°C; Package / Case: HC-49/US; Packaging: TapeAndReel; PartId: 691; Part Status: Active; Price: 0.22; Series: 9C; Size / Dimension: 0.449" L x 0.189" W (11.40mm x 4.80mm); Supplier 1: DigiKey; Supplier Part Number 1: 887-1072-1-ND; Type: MHz Crystal; Value: 30MHz
footprint TXC 9C
pins: 1, 2

## 9C-30.000MEEJ-T
designator Y?, comment 30MHz
CRYSTAL 30.0000MHZ 18PF SMD; Part Number: 9C-30.000MEEJ-T; Manufacturer: TXC CORPORATION; ESR (Equivalent Series Resistance): 30 Ohms; Frequency Stability: ±10ppm; Operating Mode: Fundamental; ComponentLink1Description: Datasheet; ComponentLink1URL: http://www.txccrystal.com/images/pdf/9c-accuracy.pdf; ComponentLink2Description: DigiKey Link; ComponentLink2URL: http://digikey.com/product-detail/en/txc-corporation/9C-30.000MEEJ-T/887-1287-1-ND/2207869; Frequency: 30MHz; Frequency Tolerance: ±10ppm; Height - Seated (Max): 0.161" (4.10mm); LastUpdated: 9/2/2020 1:22:01 AM; Lifecycle Status: Active; Load Capacitance: 18pF; Minimum Order: 1; Mounting Type: Surface Mount; Operating Temperature: -20°C ~ 70°C; Package / Case: HC-49/US; Packaging: TapeAndReel; PartId: 741; Part Status: Active; Price: 0.29; Series: 9C; Size / Dimension: 0.449" L x 0.189" W (11.40mm x 4.80mm); Supplier 1: DigiKey; Supplier Part Number 1: 887-1287-1-ND; Type: MHz Crystal; Value: 30MHz
footprint TXC 9C
pins: 1, 2

## 9C-60.000MBBK-T
designator Y?, comment 60MHz
CRYSTAL 60.0000MHZ 20PF SMD; Part Number: 9C-60.000MBBK-T; Manufacturer: TXC CORPORATION; ESR (Equivalent Series Resistance): 60 Ohms; Frequency Stability: ±50ppm; Operating Mode: 3rd Overtone; ComponentLink1Description: Datasheet; ComponentLink1URL: http://www.txccorp.com/download/products/quartz_crystals/2015TXC_9C_32.pdf; ComponentLink2Description: DigiKey Link; ComponentLink2URL: http://digikey.com/product-detail/en/txc-corporation/9C-60.000MBBK-T/887-1952-1-ND/3679684; Frequency: 60MHz; Frequency Tolerance: ±50ppm; Height - Seated (Max): 0.161" (4.10mm); LastUpdated: 9/2/2020 1:22:01 AM; Lifecycle Status: Active; Load Capacitance: 20pF; Minimum Order: 1; Mounting Type: Surface Mount; Operating Temperature: -20°C ~ 70°C; Package / Case: HC-49S; Packaging: TapeAndReel; PartId: 692; Part Status: Active; Price: 0.24; Series: 9C; Size / Dimension: 0.449" L x 0.189" W (11.40mm x 4.80mm); Supplier 1: DigiKey; Supplier Part Number 1: 887-1952-1-ND; Type: MHz Crystal; Value: 60MHz
footprint TXC 9C
pins: 1, 2

## 9C-64.000MAAJ-T
designator Y?, comment 64MHz
CRYSTAL 64.0000MHZ 18PF SMD; Part Number: 9C-64.000MAAJ-T; Manufacturer: TXC CORPORATION; ESR (Equivalent Series Resistance): 60 Ohms; Frequency Stability: ±30ppm; Operating Mode: 3rd Overtone; ComponentLink1Description: Datasheet; ComponentLink1URL: http://www.txccorp.com/download/products/quartz_crystals/2015TXC_9C_32.pdf; ComponentLink2Description: DigiKey Link; ComponentLink2URL: http://digikey.com/product-detail/en/txc-corporation/9C-64.000MAAJ-T/887-1079-1-ND/2118956; Frequency: 64MHz; Frequency Tolerance: ±30ppm; Height - Seated (Max): 0.161" (4.10mm); LastUpdated: 9/2/2020 1:22:01 AM; Lifecycle Status: Active; Load Capacitance: 18pF; Minimum Order: 1; Mounting Type: Surface Mount; Operating Temperature: -20°C ~ 70°C; Package / Case: HC-49/US; Packaging: TapeAndReel; PartId: 740; Part Status: Active; Price: 0.29; Series: 9C; Size / Dimension: 0.449" L x 0.189" W (11.40mm x 4.80mm); Supplier 1: DigiKey; Supplier Part Number 1: 887-1079-1-ND; Type: MHz Crystal; Value: 64MHz
footprint TXC 9C
pins: 1, 2

## ABLS-3.6864MHZ-20-B-3-H-T
designator Y?, comment 3.6864MHz
CRYSTAL 3.6864MHZ 20PF SMD; Part Number: ABLS-3.6864MHZ-20-B-3-H-T; Manufacturer: Abracon LLC; ESR (Equivalent Series Resistance): 180 Ohms; Frequency Stability: ±35ppm; Frequency Tolerance: ±25ppm; Operating Mode: Fundamental; ComponentLink1Description: Datasheet; ComponentLink1URL: https://abracon.com/Resonators/abls.pdf; ComponentLink2Description: DigiKey Link; ComponentLink2URL: http://digikey.com/product-detail/en/abracon-llc/ABLS-3.6864MHZ-20-B-3-H-T/535-15011-1-ND/9998088; Frequency: 3.6864MHz; Height - Seated (Max): 0.165" (4.20mm); LastUpdated: 9/2/2020 1:21:45 AM; Lifecycle Status: Active; Load Capacitance: 20pF; Minimum Order: 1; Mounting Type: Surface Mount; Operating Temperature: -20°C ~ 70°C; Package / Case: HC-49/US; Packaging: TapeAndReel; PartId: 89; Part Status: Active; Price: 0.12; Series: ABLS; Size / Dimension: 0.449" L x 0.185" W (11.40mm x 4.70mm); Supplier 1: DigiKey; Supplier Part Number 1: 535-15011-1-ND; Type: MHz Crystal; Value: 3.6864MHz
footprint ABRACON ABLS
pins: 1, 2

## ABLS-3.6864MHZ-20-B-4-Y-T
designator Y?, comment 3.6864MHz
CRYSTAL 3.6864MHZ 20PF SMD; Part Number: ABLS-3.6864MHZ-20-B-4-Y-T; Manufacturer: Abracon LLC; ESR (Equivalent Series Resistance): 180 Ohms; Frequency Stability: ±30ppm; Operating Mode: Fundamental; ComponentLink1Description: Datasheet; ComponentLink1URL: https://abracon.com/Resonators/abls.pdf; ComponentLink2Description: DigiKey Link; ComponentLink2URL: http://digikey.com/product-detail/en/abracon-llc/ABLS-3.6864MHZ-20-B-4-Y-T/535-14913-1-ND/9997990; Frequency: 3.6864MHz; Frequency Tolerance: ±30ppm; Height - Seated (Max): 0.165" (4.20mm); LastUpdated: 9/2/2020 1:21:46 AM; Lifecycle Status: Active; Load Capacitance: 20pF; Minimum Order: 1; Mounting Type: Surface Mount; Operating Temperature: -20°C ~ 70°C; Package / Case: HC-49/US; Packaging: TapeAndReel; PartId: 43; Part Status: Active; Price: 0.17; Series: ABLS; Size / Dimension: 0.449" L x 0.185" W (11.40mm x 4.70mm); Supplier 1: DigiKey; Supplier Part Number 1: 535-14913-1-ND; Type: MHz Crystal; Value: 3.6864MHz
footprint ABRACON ABLS
pins: 1, 2

## ABLS-3.6864MHZ-20-D-4-H-T
designator Y?, comment 3.6864MHz
CRYSTAL 3.6864MHZ 20PF SMD; Part Number: ABLS-3.6864MHZ-20-D-4-H-T; Manufacturer: Abracon LLC; ESR (Equivalent Series Resistance): 180 Ohms; Frequency Stability: ±35ppm; Frequency Tolerance: ±30ppm; Operating Mode: Fundamental; ComponentLink1Description: Datasheet; ComponentLink1URL: https://abracon.com/Resonators/abls.pdf; ComponentLink2Description: DigiKey Link; ComponentLink2URL: http://digikey.com/product-detail/en/abracon-llc/ABLS-3.6864MHZ-20-D-4-H-T/535-14914-1-ND/9997991; Frequency: 3.6864MHz; Height - Seated (Max): 0.165" (4.20mm); LastUpdated: 9/2/2020 1:21:45 AM; Lifecycle Status: Active; Load Capacitance: 20pF; Minimum Order: 1; Mounting Type: Surface Mount; Operating Temperature: -40°C ~ 85°C; Package / Case: HC-49/US; Packaging: TapeAndReel; PartId: 181; Part Status: Active; Price: 0.43; Series: ABLS; Size / Dimension: 0.449" L x 0.185" W (11.40mm x 4.70mm); Supplier 1: DigiKey; Supplier Part Number 1: 535-14914-1-ND; Type: MHz Crystal; Value: 3.6864MHz
footprint ABRACON ABLS
pins: 1, 2

## ABLS-3.6864MHZ-B2-T
designator Y?, comment 3.6864MHz
CRYSTAL 3.6864MHZ 18PF SMD; Part Number: ABLS-3.6864MHZ-B2-T; Manufacturer: Abracon LLC; ESR (Equivalent Series Resistance): 180 Ohms; Frequency Stability: ±50ppm; Frequency Tolerance: ±20ppm; Operating Mode: Fundamental; ComponentLink1Description: Datasheet; ComponentLink1URL: https://abracon.com/Resonators/abls.pdf; ComponentLink2Description: DigiKey Link; ComponentLink2URL: http://digikey.com/product-detail/en/abracon-llc/ABLS-3.6864MHZ-B2-T/535-9082-1-ND/675599; Frequency: 3.6864MHz; Height - Seated (Max): 0.165" (4.20mm); LastUpdated: 9/2/2020 1:21:45 AM; Lifecycle Status: Active; Load Capacitance: 18pF; Minimum Order: 1; Mounting Type: Surface Mount; Operating Temperature: -20°C ~ 70°C; Package / Case: HC-49/US; Packaging: TapeAndReel; PartId: 97; Part Status: Active; Price: 0.24; Series: ABLS; Size / Dimension: 0.449" L x 0.185" W (11.40mm x 4.70mm); Supplier 1: DigiKey; Supplier Part Number 1: 535-9082-1-ND; Type: MHz Crystal; Value: 3.6864MHz
footprint ABRACON ABLS
pins: 1, 2

## ABLS-3.6864MHZ-B4-T
designator Y?, comment 3.6864MHz
CRYSTAL 3.6864MHZ 18PF SMD; Part Number: ABLS-3.6864MHZ-B4-T; Manufacturer: Abracon LLC; ESR (Equivalent Series Resistance): 180 Ohms; Frequency Stability: ±50ppm; Frequency Tolerance: ±30ppm; Operating Mode: Fundamental; ComponentLink1Description: Datasheet; ComponentLink1URL: https://abracon.com/Resonators/abls.pdf; ComponentLink2Description: DigiKey Link; ComponentLink2URL: http://digikey.com/product-detail/en/abracon-llc/ABLS-3.6864MHZ-B4-T/535-10201-1-ND/2184236; Frequency: 3.6864MHz; Height - Seated (Max): 0.165" (4.20mm); LastUpdated: 9/2/2020 1:21:45 AM; Lifecycle Status: Active; Load Capacitance: 18pF; Minimum Order: 1; Mounting Type: Surface Mount; Operating Temperature: -20°C ~ 70°C; Package / Case: HC-49/US; Packaging: TapeAndReel; PartId: 100; Part Status: Active; Price: 0.18; Series: ABLS; Size / Dimension: 0.449" L x 0.185" W (11.40mm x 4.70mm); Supplier 1: DigiKey; Supplier Part Number 1: 535-10201-1-ND; Type: MHz Crystal; Value: 3.6864MHz
footprint ABRACON ABLS
pins: 1, 2

## ABLS-3.6864MHZ-D-3-Y-T
designator Y?, comment 3.6864MHz
CRYSTAL 3.6864MHZ 18PF SMD; Part Number: ABLS-3.6864MHZ-D-3-Y-T; Manufacturer: Abracon LLC; ESR (Equivalent Series Resistance): 180 Ohms; Frequency Stability: ±30ppm; Frequency Tolerance: ±25ppm; Operating Mode: Fundamental; ComponentLink1Description: Datasheet; ComponentLink1URL: https://abracon.com/Resonators/abls.pdf; ComponentLink2Description: DigiKey Link; ComponentLink2URL: http://digikey.com/product-detail/en/abracon-llc/ABLS-3.6864MHZ-D-3-Y-T/535-14915-1-ND/9997992; Frequency: 3.6864MHz; Height - Seated (Max): 0.165" (4.20mm); LastUpdated: 9/2/2020 1:21:46 AM; Lifecycle Status: Active; Load Capacitance: 18pF; Minimum Order: 1; Mounting Type: Surface Mount; Operating Temperature: -40°C ~ 85°C; Package / Case: HC-49/US; Packaging: TapeAndReel; PartId: 33; Part Status: Active; Price: 0.12; Series: ABLS; Size / Dimension: 0.449" L x 0.185" W (11.40mm x 4.70mm); Supplier 1: DigiKey; Supplier Part Number 1: 535-14915-1-ND; Type: MHz Crystal; Value: 3.6864MHz
footprint ABRACON ABLS
pins: 1, 2

## ABLS-3.6864MHZ-D-4-H-T
designator Y?, comment 3.6864MHz
CRYSTAL 3.6864MHZ 18PF SMD; Part Number: ABLS-3.6864MHZ-D-4-H-T; Manufacturer: Abracon LLC; ESR (Equivalent Series Resistance): 180 Ohms; Frequency Stability: ±35ppm; Frequency Tolerance: ±30ppm; Operating Mode: Fundamental; ComponentLink1Description: Datasheet; ComponentLink1URL: https://abracon.com/Resonators/abls.pdf; ComponentLink2Description: DigiKey Link; ComponentLink2URL: http://digikey.com/product-detail/en/abracon-llc/ABLS-3.6864MHZ-D-4-H-T/535-14916-1-ND/9997993; Frequency: 3.6864MHz; Height - Seated (Max): 0.165" (4.20mm); LastUpdated: 9/2/2020 1:21:46 AM; Lifecycle Status: Active; Load Capacitance: 18pF; Minimum Order: 1; Mounting Type: Surface Mount; Operating Temperature: -40°C ~ 85°C; Package / Case: HC-49/US; Packaging: TapeAndReel; PartId: 76; Part Status: Active; Price: 0.27; Series: ABLS; Size / Dimension: 0.449" L x 0.185" W (11.40mm x 4.70mm); Supplier 1: DigiKey; Supplier Part Number 1: 535-14916-1-ND; Type: MHz Crystal; Value: 3.6864MHz
footprint ABRACON ABLS
pins: 1, 2